# Altium footprint library 74xx-little-de.PCBLIB: 22 footprints (part 1 of 2)
Each footprint in its own frame and in the unit in brackets; x right, y up, seen from the top. Pads: shape width x height; smd on the part's side, far side on the other; paste and mask are expansions set on the pad; w line width, h text height; cw(c..) or ccw(c..) is an arc to the next point about the centre after c.
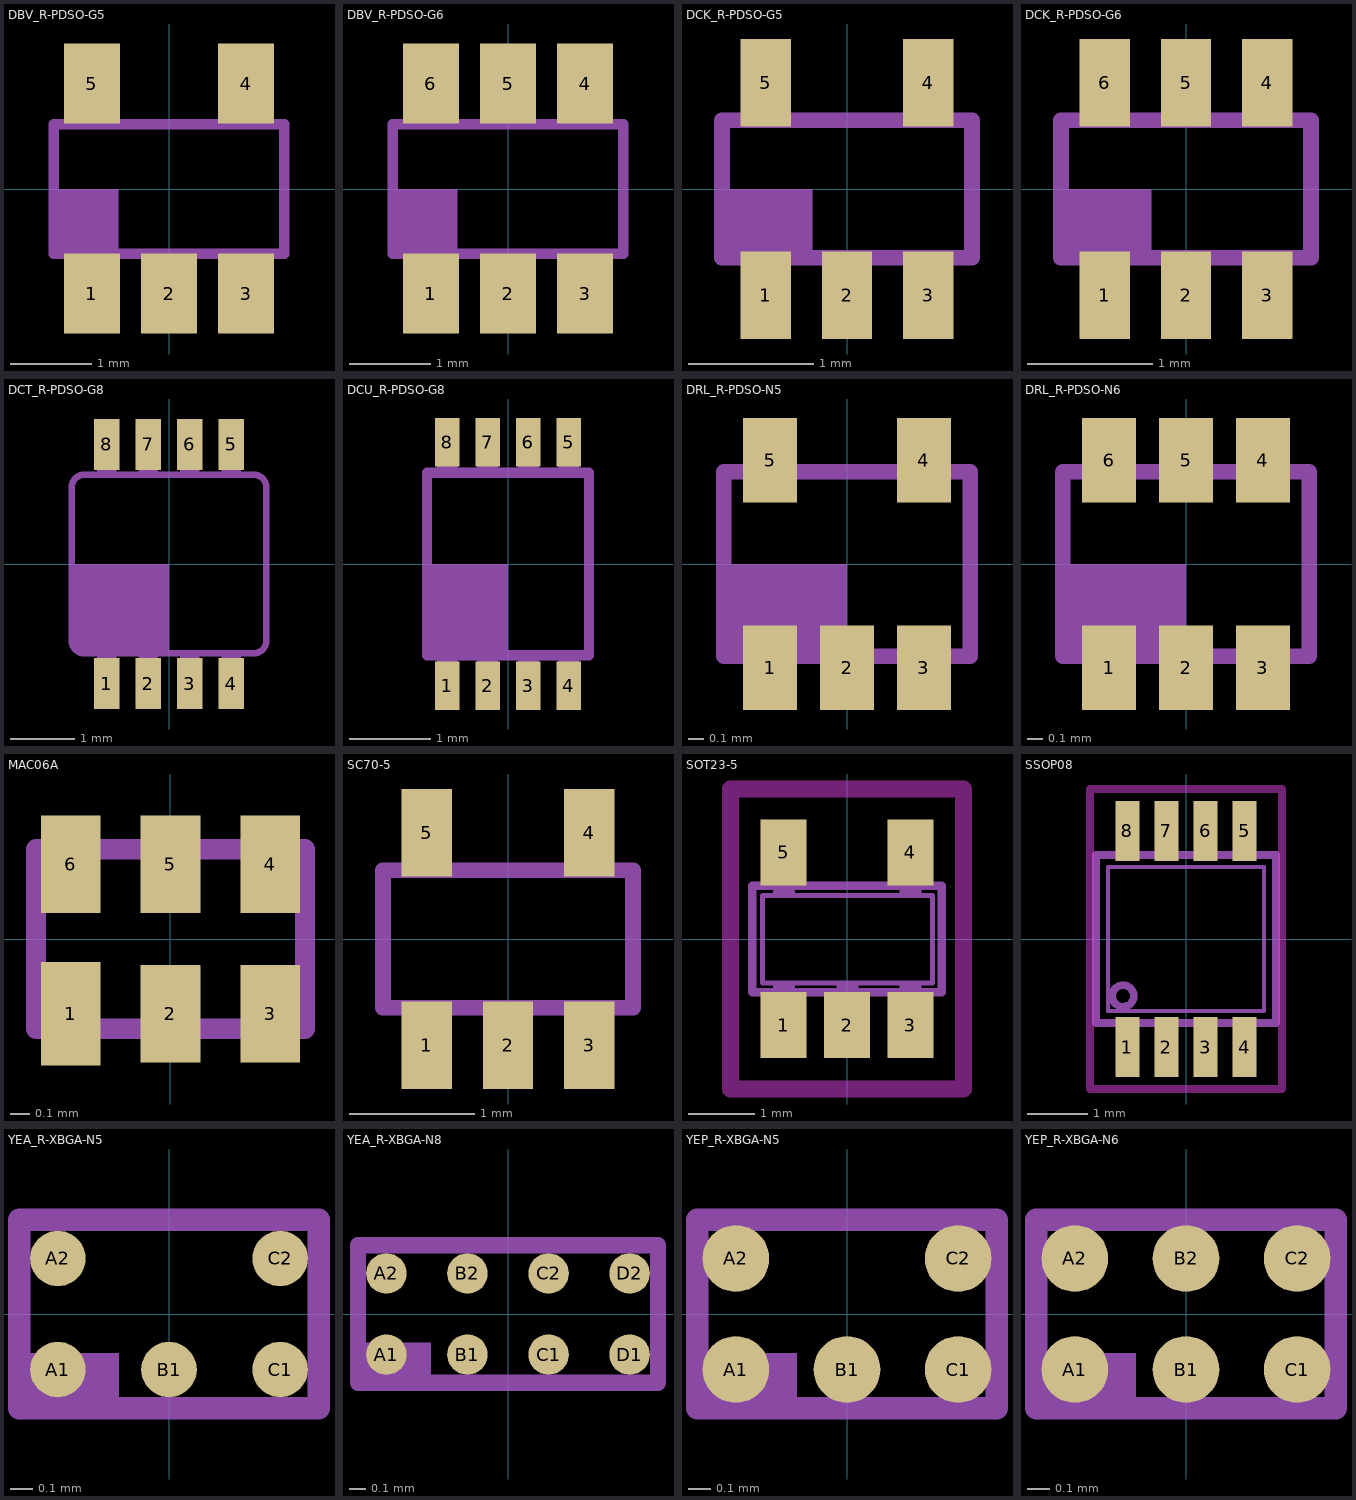
[diagram p0: the footprints below, top view; thin cyan lines are the x and y axes]

## DBV_R-PDSO-G5 [mm]
pads (5):
  rect 0.69x0.99 smd mask-0.495: 1(-0.95,-1.29) 2(0,-1.29) 3(0.95,-1.29) 4(0.95,1.3) 5(-0.95,1.3)
Top Solder:
  rectangle: -1.35,0.75 -0.55,1.85
  rectangle: 0.55,0.75 1.35,1.85
  region: 1.35,-0.75 0.55,-0.75 0.55,-1.85 1.35,-1.85
  region: 0.4,-0.75 -0.4,-0.75 -0.4,-1.85 0.4,-1.85
  region: -0.55,-0.75 -1.35,-0.75 -1.35,-1.85 -0.55,-1.85
Mechanical 2:
  rectangle: -1.375,-0.75 -0.625,0
  lines w0.01: 0,-1.3 0,-1.29
  lines w0.127: -1.42,-0.8 -1.42,0.8 ; 1.42,-0.8 1.42,0.8
Mechanical 18:
  rectangle: -1.11,0.8 -0.78,1.43
  rectangle: 0.79,0.8 1.12,1.42
  rectangle: -1.11,-1.42 -0.78,-0.8
  rectangle: -0.16,-1.42 0.17,-0.8
  rectangle: 0.79,-1.42 1.12,-0.8
  lines w0.127: -1.42,-0.8 1.42,-0.8 ; -1.42,0.8 1.42,0.8

## DBV_R-PDSO-G6 [mm]
pads (6):
  rect 0.69x0.99 smd mask-0.495: 1(-0.95,-1.29) 2(0,-1.29) 3(0.95,-1.29) 4(0.95,1.3) 5(0,1.3) 6(-0.95,1.3)
Top Solder:
  rectangle: -1.35,0.75 -0.55,1.85
  rectangle: -0.4,0.75 0.4,1.85
  rectangle: 0.55,0.75 1.35,1.85
  region: 1.35,-0.75 0.55,-0.75 0.55,-1.85 1.35,-1.85
  region: 0.4,-0.75 -0.4,-0.75 -0.4,-1.85 0.4,-1.85
  region: -0.55,-0.75 -1.35,-0.75 -1.35,-1.85 -0.55,-1.85
Mechanical 2:
  rectangle: -1.375,-0.75 -0.625,0
  lines w0.01: 0,-1.3 0,-1.29
  lines w0.127: -1.42,-0.8 -1.42,0.8 ; 1.42,-0.8 1.42,0.8
Mechanical 18:
  rectangle: -1.11,0.8 -0.78,1.43
  rectangle: 0.79,0.8 1.12,1.42
  rectangle: -1.11,-1.42 -0.78,-0.8
  rectangle: -0.16,-1.42 0.17,-0.8
  rectangle: 0.79,-1.42 1.12,-0.8
  rectangle: -0.16,0.8 0.17,1.42
  lines w0.127: -1.42,-0.8 1.42,-0.8 ; -1.42,0.8 1.42,0.8

## DCK_R-PDSO-G5 [mm]
pads (5):
  rect 0.4x0.7 smd: 1(-0.65,-0.85) 2(0,-0.85) 3(0.65,-0.85) 4(0.65,0.85) 5(-0.65,0.85)
Mechanical 2:
  rectangle: -0.95,-0.5 -0.275,0
  lines w0.127: -1,-0.55 -1,0.55 ; 1,-0.55 1,0.55
Mechanical 18:
  rectangle: -0.125,-1.05 0.125,-0.6
  rectangle: -0.775,-1.05 -0.525,-0.6
  rectangle: 0.525,-1.05 0.775,-0.6
  rectangle: -0.775,0.6 -0.525,1.05
  rectangle: 0.525,0.6 0.775,1.05
  lines w0.127: -1,-0.55 1,-0.55 ; -1,0.55 1,0.55

## DCK_R-PDSO-G6 [mm]
pads (6):
  rect 0.4x0.7 smd: 1(-0.65,-0.85) 2(0,-0.85) 3(0.65,-0.85) 4(0.65,0.85) 5(0,0.85) 6(-0.65,0.85)
Mechanical 2:
  rectangle: -0.95,-0.5 -0.275,0
  lines w0.127: -1,-0.55 -1,0.55 ; 1,-0.55 1,0.55
Mechanical 18:
  rectangle: -0.125,-1.05 0.125,-0.6
  rectangle: -0.775,-1.05 -0.525,-0.6
  rectangle: 0.525,-1.05 0.775,-0.6
  rectangle: -0.775,0.6 -0.525,1.05
  rectangle: 0.525,0.6 0.775,1.05
  rectangle: -0.125,0.6 0.125,1.05
  lines w0.127: -1,-0.55 1,-0.55 ; -1,0.55 1,0.55

## DCT_R-PDSO-G8 [mil]
pads (8):
  rect 15.75x31.5 smd mask-15.75: 1(-38.39,-73.82) 2(-12.8,-73.82) 3(12.8,-73.82) 4(38.39,-73.82) 5(38.39,73.82) 6(12.8,73.82) 7(-12.8,73.82) 8(-38.39,73.82)
Top Solder:
  rectangle: -48.23,-92.52 -28.54,-56.1
  rectangle: -22.64,-92.52 -2.95,-56.1
  rectangle: 2.95,-92.52 22.64,-56.1
  rectangle: 28.54,-92.52 48.23,-56.1
  region: 48.23,92.52 28.54,92.52 28.54,56.1 48.23,56.1
  region: 22.64,92.52 2.95,92.52 2.95,56.1 22.64,56.1
  region: -2.95,92.52 -22.64,92.52 -22.64,56.1 -2.95,56.1
  region: -28.54,92.52 -48.23,92.52 -48.23,56.1 -28.54,56.1
Mechanical 2:
  rectangle: -59.06,-53.15 0,0
  lines w4: -60.04,-47.24 ccw(c-52.16,-47.24) -52.17,-55.12 52.17,-55.12 ccw(c52.16,-47.24) 60.04,-47.24 60.04,47.24 ccw(c52.16,47.24) 52.17,55.12 -52.17,55.12 ccw(c-52.16,47.24) -60.04,47.24 -60.04,-47.24
Mechanical 18:
  rectangle: -44.29,-83.66 -32.48,-55.12
  rectangle: -18.7,-83.66 -6.89,-55.12
  rectangle: 6.89,-83.66 18.7,-55.12
  rectangle: 32.48,-83.66 44.29,-55.12
  region: 44.29,83.66 32.48,83.66 32.48,55.12 44.29,55.12
  region: 18.7,83.66 6.89,83.66 6.89,55.12 18.7,55.12
  region: -6.89,83.66 -18.7,83.66 -18.7,55.12 -6.89,55.12
  region: -32.48,83.66 -44.29,83.66 -44.29,55.12 -32.48,55.12

## DCU_R-PDSO-G8 [mm]
pads (8):
  rect 0.3x0.6 smd mask-0.3: 1(-0.75,-1.5) 2(-0.25,-1.5) 3(0.25,-1.5) 4(0.75,-1.5) 5(0.75,1.5) 6(0.25,1.5) 7(-0.25,1.5) 8(-0.75,1.5)
Top Solder:
  rectangle: -0.95,-1.85 -0.55,-1.15
  rectangle: -0.45,-1.85 -0.05,-1.15
  rectangle: 0.05,-1.85 0.45,-1.15
  rectangle: 0.55,-1.85 0.95,-1.15
  region: 0.95,1.85 0.55,1.85 0.55,1.15 0.95,1.15
  region: 0.45,1.85 0.05,1.85 0.05,1.15 0.45,1.15
  region: -0.05,1.85 -0.45,1.85 -0.45,1.15 -0.05,1.15
  region: -0.55,1.85 -0.95,1.85 -0.95,1.15 -0.55,1.15
Mechanical 2:
  rectangle: -0.95,-1.075 0,0
  lines w0.127: -1,-1.125 1,-1.125 1,1.125 -1,1.125 -1,-1.125
Mechanical 18:
  rectangle: -0.875,-1.6 -0.625,-1.175
  rectangle: -0.375,-1.6 -0.125,-1.175
  rectangle: 0.125,-1.6 0.375,-1.175
  rectangle: 0.625,-1.6 0.875,-1.175
  region: 0.875,1.6 0.625,1.6 0.625,1.175 0.875,1.175
  region: 0.375,1.6 0.125,1.6 0.125,1.175 0.375,1.175
  region: -0.125,1.6 -0.375,1.6 -0.375,1.175 -0.125,1.175
  region: -0.625,1.6 -0.875,1.6 -0.875,1.175 -0.625,1.175

## DRL_R-PDSO-N5 [mm]
pads (5):
  rect 0.35x0.55 smd mask-0.275: 1(-0.5,-0.675) 2(0,-0.675) 3(0.5,-0.675) 4(0.5,0.675) 5(-0.5,0.675)
Top Solder:
  rectangle: -0.7,-0.975 -0.3,-0.375
  rectangle: -0.2,-0.975 0.2,-0.375
  rectangle: 0.3,-0.975 0.7,-0.375
  region: 0.7,0.975 0.3,0.975 0.3,0.375 0.7,0.375
  region: -0.3,0.975 -0.7,0.975 -0.7,0.375 -0.3,0.375
Mechanical 2:
  rectangle: -0.75,-0.325 0,0
  lines w0.102: -0.8,-0.6 -0.8,0.6 ; 0.8,-0.6 0.8,0.6
Mechanical 18:
  rectangle: -0.775,-0.575 0,0
  rectangle: -0.625,-0.85 -0.375,-0.45
  rectangle: -0.125,-0.85 0.125,-0.45
  rectangle: 0.375,-0.85 0.625,-0.45
  region: 0.625,0.85 0.375,0.85 0.375,0.45 0.625,0.45
  region: -0.375,0.85 -0.625,0.85 -0.625,0.45 -0.375,0.45
  lines w0.102: -0.8,-0.6 0.8,-0.6 ; -0.8,0.6 0.8,0.6

## DRL_R-PDSO-N6 [mm]
pads (6):
  rect 0.35x0.55 smd mask-0.275: 1(-0.5,-0.675) 2(0,-0.675) 3(0.5,-0.675) 4(0.5,0.675) 5(0,0.675) 6(-0.5,0.675)
Top Solder:
  rectangle: -0.7,-0.975 -0.3,-0.375
  rectangle: -0.2,-0.975 0.2,-0.375
  rectangle: 0.3,-0.975 0.7,-0.375
  region: 0.7,0.975 0.3,0.975 0.3,0.375 0.7,0.375
  region: 0.2,0.975 -0.2,0.975 -0.2,0.375 0.2,0.375
  region: -0.3,0.975 -0.7,0.975 -0.7,0.375 -0.3,0.375
Mechanical 2:
  rectangle: -0.75,-0.325 0,0
  lines w0.102: -0.8,-0.6 -0.8,0.6 ; 0.8,-0.6 0.8,0.6
Mechanical 18:
  rectangle: -0.775,-0.575 0,0
  rectangle: -0.625,-0.85 -0.375,-0.45
  rectangle: -0.125,-0.85 0.125,-0.45
  rectangle: 0.375,-0.85 0.625,-0.45
  region: 0.625,0.85 0.375,0.85 0.375,0.45 0.625,0.45
  region: 0.125,0.85 -0.125,0.85 -0.125,0.45 0.125,0.45
  region: -0.375,0.85 -0.625,0.85 -0.625,0.45 -0.375,0.45
  lines w0.102: -0.8,-0.6 0.8,-0.6 ; -0.8,0.6 0.8,0.6

## MAC06A [mm]
pads (6):
  rect 0.3x0.52 smd mask-0.26: 1(-0.5,-0.375)
  rect 0.3x0.49 smd mask-0.245: 2(0,-0.375) 3(0.5,-0.375) 4(0.5,0.375) 5(0,0.375) 6(-0.5,0.375)
Top Solder:
  rectangle: -0.675,0.087 -0.325,0.662
  rectangle: -0.175,0.087 0.175,0.662
  rectangle: 0.325,0.087 0.675,0.662
  region: 0.675,-0.087 0.325,-0.087 0.325,-0.662 0.675,-0.662
  region: 0.175,-0.087 -0.175,-0.087 -0.175,-0.662 0.175,-0.662
  region: -0.325,-0.087 -0.675,-0.087 -0.675,-0.662 -0.325,-0.662
Mechanical 18:
  rectangle: -0.638,-0.412 -0.425,-0.2
  lines w0.102: -0.675,-0.45 0.675,-0.45 0.675,0.45 -0.675,0.45 -0.675,-0.45

## SC70-5 [mm]
pads (5):
  rect 0.4x0.7 smd: 1(-0.65,-0.85) 2(0,-0.85) 3(0.65,-0.85) 4(0.65,0.85) 5(-0.65,0.85)
Mechanical 2:
  lines w0.127: -1,-0.55 -1,0.55 ; 1,-0.55 1,0.55
Mechanical 18:
  rectangle: -0.125,-1.05 0.125,-0.6
  rectangle: -0.775,-1.05 -0.525,-0.6
  rectangle: 0.525,-1.05 0.775,-0.6
  rectangle: -0.775,0.6 -0.525,1.05
  rectangle: 0.525,0.6 0.775,1.05
  lines w0.127: -1,-0.55 1,-0.55 ; -1,0.55 1,0.55

## SOT23-5 [mm]
pads (5):
  rect 0.69x0.99 smd: 1(-0.95,-1.29) 2(0,-1.29) 3(0.95,-1.29) 4(0.95,1.3) 5(-0.95,1.3)
Keep-Out Layer:
  lines w0.254: -1.75,-2.25 1.75,-2.25 1.75,2.25 -1.75,2.25 -1.75,-2.25
Mechanical 2:
  lines w0.01: 0,-1.3 0,-1.29
  lines w0.075: -1.27,-0.66 1.28,-0.66 1.28,0.65 -1.27,0.65 -1.27,-0.66
  lines w0.127: -1.42,-0.8 -1.42,0.8 ; 1.42,-0.8 1.42,0.8
Mechanical 18:
  rectangle: -1.11,0.68 -0.78,1.43
  rectangle: 0.79,0.67 1.12,1.42
  rectangle: -1.11,-1.42 -0.78,-0.67
  rectangle: -0.16,-1.42 0.17,-0.67
  rectangle: 0.79,-1.42 1.12,-0.67
  lines w0.127: -1.42,-0.8 1.42,-0.8 ; -1.42,0.8 1.42,0.8

## SSOP08 [mm]
pads (8):
  rect 0.4x1 smd: 1(-0.975,-1.8) 2(-0.325,-1.8) 3(0.325,-1.8) 4(0.975,-1.8) 5(0.975,1.8) 6(0.325,1.8) 7(-0.325,1.8) 8(-0.975,1.8)
Keep-Out Layer:
  lines w0.127: -1.6,-2.5 1.6,-2.5 1.6,2.5 -1.6,2.5 -1.6,-2.5
Mechanical 2:
  circle w0.127: c-1.05,-0.95 r0.18
  lines w0.064: -1.3,-1.2 1.3,-1.2 1.3,1.2 -1.3,1.2 -1.3,-1.2
  lines w0.127: -1.5,-1.4 -1.5,1.4 ; 1.5,-1.4 1.5,1.4
Mechanical 18:
  rectangle: -0.45,1.4 -0.2,2
  rectangle: 0.2,-2 0.45,-1.4
  rectangle: 0.2,1.4 0.45,2
  rectangle: 0.85,1.4 1.1,2
  rectangle: -0.45,-2 -0.2,-1.4
  rectangle: -1.1,-2 -0.85,-1.4
  rectangle: 0.85,-2 1.1,-1.4
  rectangle: -1.1,1.4 -0.85,2
  lines w0.127: -1.5,-1.4 1.5,-1.4 ; -1.5,1.4 1.5,1.4

## YEA_R-XBGA-N5 [mm]
pads (5):
  rrect100% 0.25x0.25 smd paste-0.125 mask-0.125: A1(-0.5,-0.25) A2(-0.5,0.25) B1(0,-0.25) C1(0.5,-0.25) C2(0.5,0.25)
Top Solder:
  circle w0: c-0.5,-0.25 r0.175
  circle w0: c0,-0.25 r0.175
  circle w0: c0.5,-0.25 r0.175
  circle w0: c0.5,0.25 r0.175
  circle w0: c-0.5,0.25 r0.175
Mechanical 2:
  rectangle: -0.3,-0.375 -0.225,-0.175
Mechanical 18:
  rectangle: -0.675,-0.4 -0.225,-0.175
  lines w0.102: -0.675,-0.425 0.675,-0.425 0.675,0.425 -0.675,0.425 -0.675,-0.425

## YEA_R-XBGA-N8 [mm]
pads (8):
  rrect100% 0.25x0.25 smd paste-0.125 mask-0.125: A1(-0.75,-0.25) A2(-0.75,0.25) B1(-0.25,-0.25) B2(-0.25,0.25) C1(0.25,-0.25) C2(0.25,0.25) D1(0.75,-0.25) D2(0.75,0.25)
Top Solder:
  circle w0: c-0.75,-0.25 r0.175
  circle w0: c-0.25,-0.25 r0.175
  circle w0: c0.25,-0.25 r0.175
  circle w0: c0.25,0.25 r0.175
  circle w0: c-0.75,0.25 r0.175
  circle w0: c0.75,-0.25 r0.175
  circle w0: c0.75,0.25 r0.175
  circle w0: c-0.25,0.25 r0.175
Mechanical 2:
  rectangle: -0.55,-0.375 -0.475,-0.175
Mechanical 18:
  rectangle: -0.925,-0.4 -0.475,-0.175
  lines w0.102: -0.925,-0.425 0.925,-0.425 0.925,0.425 -0.925,0.425 -0.925,-0.425

## YEP_R-XBGA-N5 [mm]
pads (5):
  rrect100% 0.3x0.3 smd paste-0.15 mask-0.15: A1(-0.5,-0.25) A2(-0.5,0.25) B1(0,-0.25) C1(0.5,-0.25) C2(0.5,0.25)
Top Solder:
  circle w0: c-0.5,-0.25 r0.175
  circle w0: c0,-0.25 r0.175
  circle w0: c0.5,-0.25 r0.175
  circle w0: c0.5,0.25 r0.175
  circle w0: c-0.5,0.25 r0.175
Mechanical 2:
  rectangle: -0.3,-0.375 -0.225,-0.175
Mechanical 18:
  rectangle: -0.675,-0.4 -0.225,-0.175
  lines w0.102: -0.675,-0.425 0.675,-0.425 0.675,0.425 -0.675,0.425 -0.675,-0.425

## YEP_R-XBGA-N6 [mm]
pads (6):
  rrect100% 0.3x0.3 smd paste-0.15 mask-0.15: A1(-0.5,-0.25) A2(-0.5,0.25) B1(0,-0.25) B2(0,0.25) C1(0.5,-0.25) C2(0.5,0.25)
Top Solder:
  circle w0: c-0.5,-0.25 r0.175
  circle w0: c0,-0.25 r0.175
  circle w0: c0.5,-0.25 r0.175
  circle w0: c0.5,0.25 r0.175
  circle w0: c0,0.25 r0.175
  circle w0: c-0.5,0.25 r0.175
Mechanical 2:
  rectangle: -0.3,-0.375 -0.225,-0.175
Mechanical 18:
  rectangle: -0.675,-0.4 -0.225,-0.175
  lines w0.102: -0.675,-0.425 0.675,-0.425 0.675,0.425 -0.675,0.425 -0.675,-0.425